# EAGLE library part CC1101RTK (library Mine)
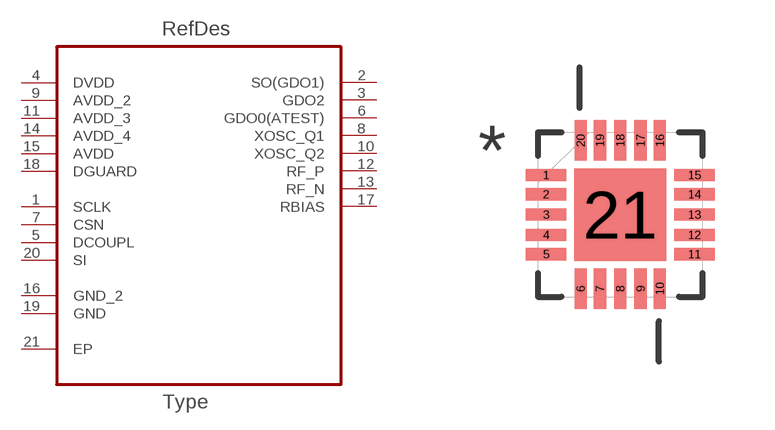
[diagram p63: symbol with the pads of QFN50P400X400X90-21N; footprint QFN50P400X400X90-21N]

Designator prefix U

## CC1101RTK (DESCRIPTION: Low-Power Sub-1 GHz RF Transceiver; MPN: CC1101RTK; OC_FARNELL: 1555264; OC_NEWARK: 50M8833; PACKAGE: QFN-20; SUPPLIER: Texas Instruments)  [QFN50P400X400X90-21N]
1  SCLK  in
2  SO(GDO1)  out
3  GDO2  out
4  DVDD  pwr
5  DCOUPL  pwr
6  GDO0(ATEST)
7  CSN  in
8  XOSC_Q1
9  AVDD_2  pwr
10  XOSC_Q2
11  AVDD_3  pwr
12  RF_P
13  RF_N
14  AVDD_4  pwr
15  AVDD  pwr
16  GND_2  pas
17  RBIAS
18  DGUARD  pwr
19  GND  pas
20  SI  in
21  EP  pas

## Footprint QFN50P400X400X90-21N (pad centres in mm)
smd 1.016 x 0.305: 1 -1.854,0.991; 2 -1.854,0.508; 3 -1.854,0; 4 -1.854,-0.508; 5 -1.854,-0.991; 11 1.854,-0.991; 12 1.854,-0.508; 13 1.854,0; 14 1.854,0.508; 15 1.854,0.991
smd 0.305 x 1.016: 6 -0.991,-1.854; 7 -0.508,-1.854; 8 0,-1.854; 9 0.508,-1.854; 10 0.991,-1.854; 16 0.991,1.854; 17 0.508,1.854; 18 0,1.854; 19 -0.508,1.854; 20 -0.991,1.854
smd 2.311 x 2.311: 21 0,0